# Altium footprint library Headers.PcbLib: 27 footprints (part 1 of 2)
Each footprint in its own frame and in the unit in brackets; x right, y up, seen from the top. Pads: shape width x height; smd on the part's side, far side on the other; paste and mask are expansions set on the pad; w line width, h text height; cw(c..) or ccw(c..) is an arc to the next point about the centre after c.
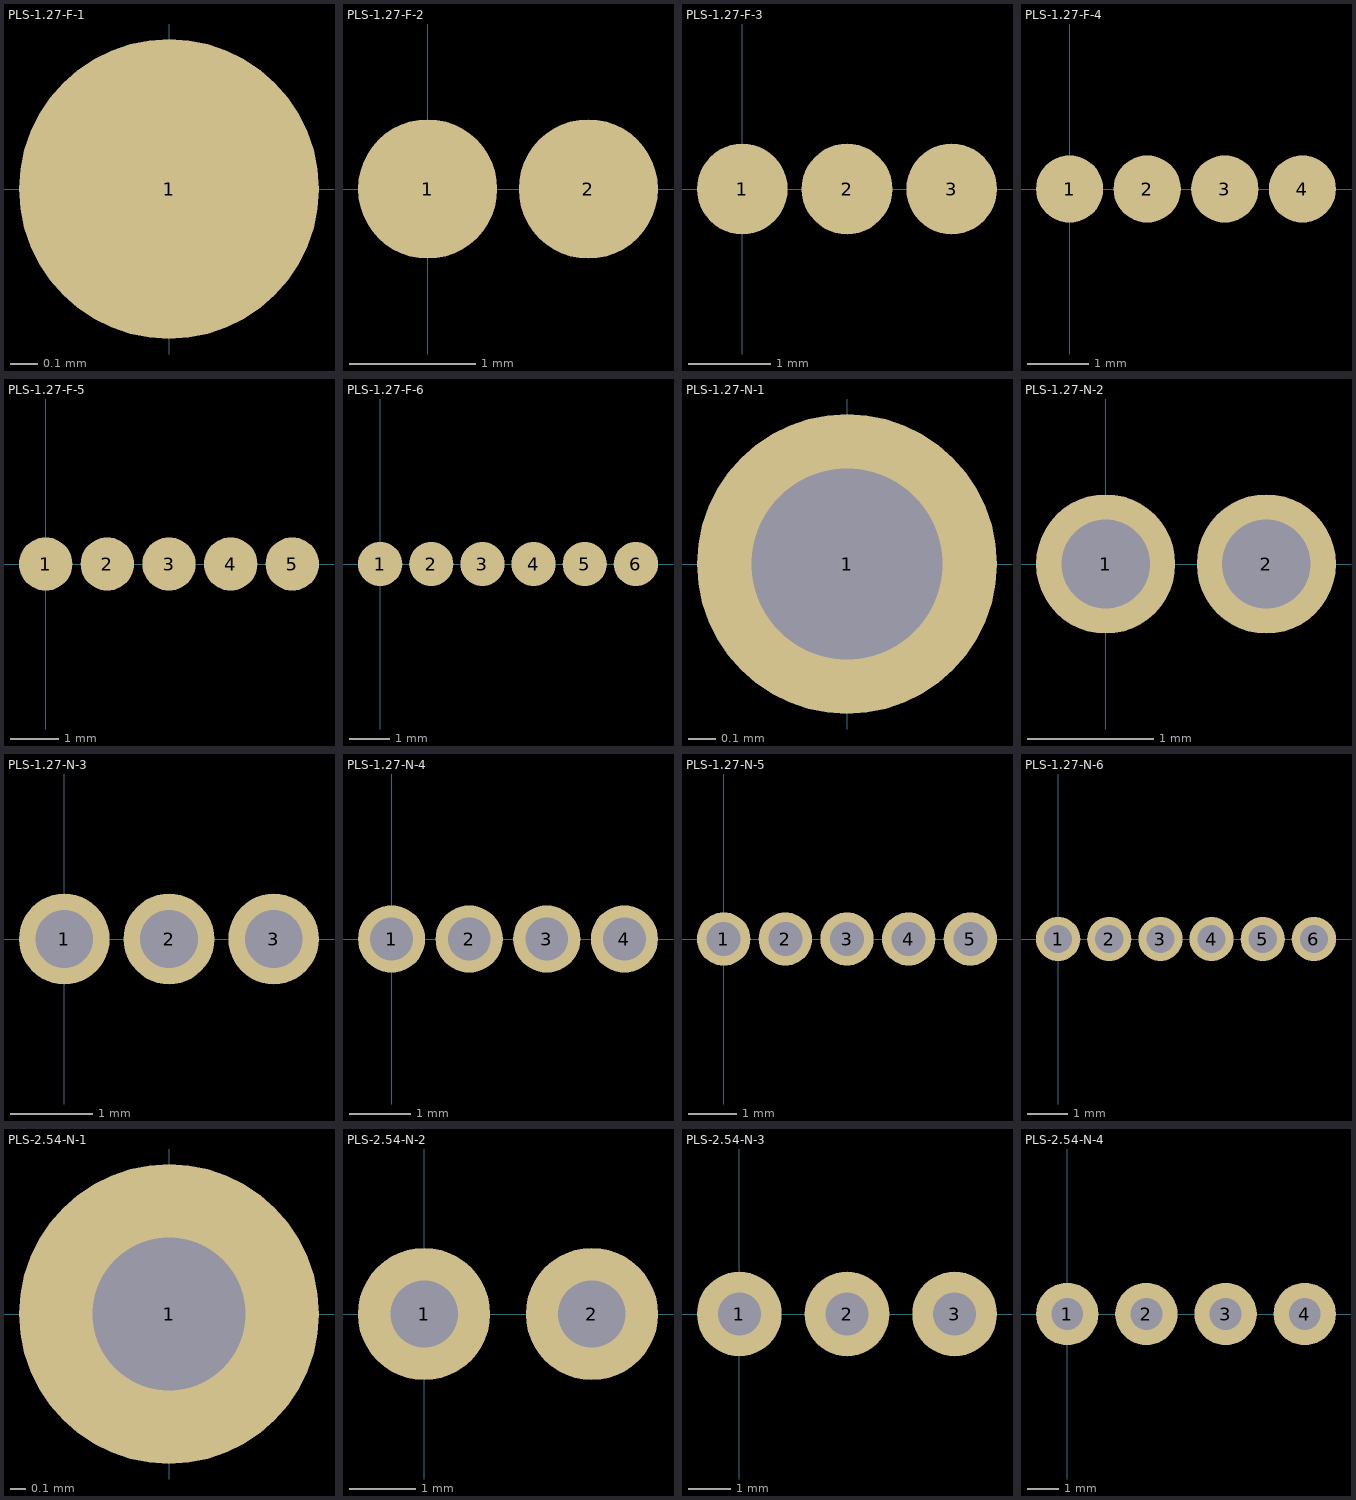
[diagram p0: the footprints below, top view; thin cyan lines are the x and y axes]

## PLS-1.27-F-1 [mm]
pads (1):
  round 1.1 smd: 1(0,0)

## PLS-1.27-F-2 [mm]
pads (2):
  round 1.1 smd: 1(0,0) 2(1.27,0)

## PLS-1.27-F-3 [mm]
pads (3):
  round 1.1 smd: 1(0,0) 2(1.27,0) 3(2.54,0)

## PLS-1.27-F-4 [mm]
pads (4):
  round 1.1 smd: 1(0,0) 2(1.27,0) 3(2.54,0) 4(3.81,0)

## PLS-1.27-F-5 [mm]
pads (5):
  round 1.1 smd: 1(0,0) 2(1.27,0) 3(2.54,0) 4(3.81,0) 5(5.08,0)

## PLS-1.27-F-6 [mm]
pads (6):
  round 1.1 smd: 1(0,0) 2(1.27,0) 3(2.54,0) 4(3.81,0) 5(5.08,0) 6(6.35,0)

## PLS-1.27-N-1 [mm]
pads (1):
  round 1.1 hole 0.7: 1(0,0)

## PLS-1.27-N-2 [mm]
pads (2):
  round 1.1 hole 0.7: 1(0,0) 2(1.27,0)

## PLS-1.27-N-3 [mm]
pads (3):
  round 1.1 hole 0.7: 1(0,0) 2(1.27,0) 3(2.54,0)

## PLS-1.27-N-4 [mm]
pads (4):
  round 1.1 hole 0.7: 1(0,0) 2(1.27,0) 3(2.54,0) 4(3.81,0)

## PLS-1.27-N-5 [mm]
pads (5):
  round 1.1 hole 0.7: 1(0,0) 2(1.27,0) 3(2.54,0) 4(3.81,0) 5(5.08,0)

## PLS-1.27-N-6 [mm]
pads (6):
  round 1.1 hole 0.7: 1(0,0) 2(1.27,0) 3(2.54,0) 4(3.81,0) 5(5.08,0) 6(6.35,0)

## PLS-2.54-N-1 [mm]
pads (1):
  round 2 hole 1.02: 1(0,0)

## PLS-2.54-N-2 [mm]
pads (2):
  round 2 hole 1.02: 1(0,0) 2(2.54,0)

## PLS-2.54-N-3 [mm]
pads (3):
  round 2 hole 1.02: 1(0,0) 2(2.54,0) 3(5.08,0)

## PLS-2.54-N-4 [mm]
pads (4):
  round 2 hole 1.02: 1(0,0) 2(2.54,0) 3(5.08,0) 4(7.62,0)